# Altium footprint library PCB - CONNECTOR - MOLEX - MOLEX 0734152063.PcbLib: 1 footprints
Each footprint in its own frame and in the unit in brackets; x right, y up, seen from the top. Pads: shape width x height; smd on the part's side, far side on the other; paste and mask are expansions set on the pad; w line width, h text height; cw(c..) or ccw(c..) is an arc to the next point about the centre after c.
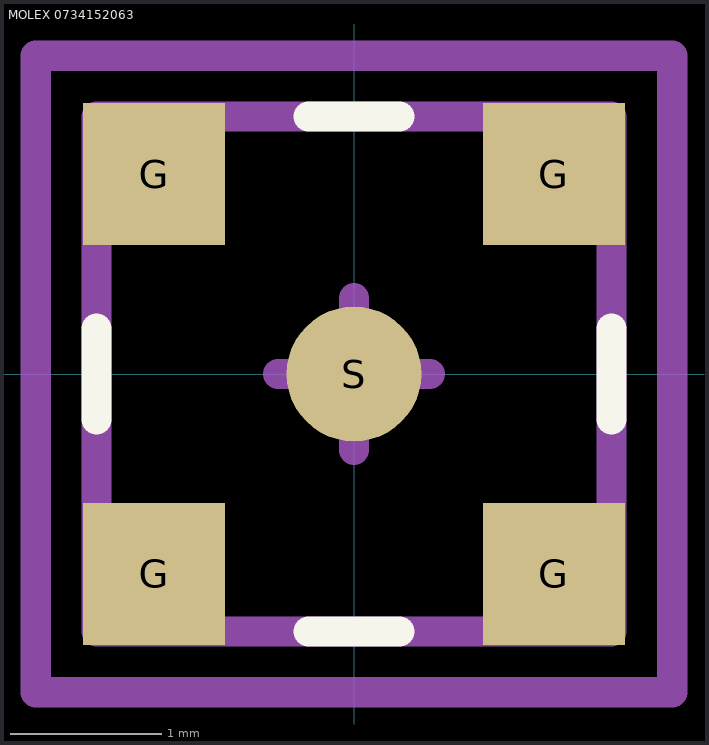
[diagram p0: the footprint, top view; thin cyan lines are the x and y axes]

## MOLEX 0734152063 [mm] "CONN MMCX JACK STR 50 OHM SMD"
height 5.15
pads (5):
  rect 0.94x0.94 smd: G(-1.32,-1.32) G(-1.32,1.32) G(1.32,-1.32) G(1.32,1.32)
  round 0.89 smd: S(0,0)
Top Overlay:
  lines w0.2: -1.7,-0.3 -1.7,0.3 ; -0.3,-1.7 0.3,-1.7 ; -0.3,1.7 0.3,1.7 ; 1.7,-0.3 1.7,0.3
Top Assembly:
  lines w0.2: -0.5,0 0.5,0 ; 0,-0.5 0,0.5 ; -1.7,-1.7 -1.7,1.7 1.7,1.7 1.7,-1.7 -1.7,-1.7
Top Courtyard (Mech15):
  lines w0.2: -2.1,-2.1 -2.1,2.1 2.1,2.1 2.1,-2.1 -2.1,-2.1
3D body "Molex 0734152063.step": height 5, standoff -0.01, extent -1.725,-1.725 1.725,1.725